# EAGLE library part TI-TPS62175 (library EagleLibrary)
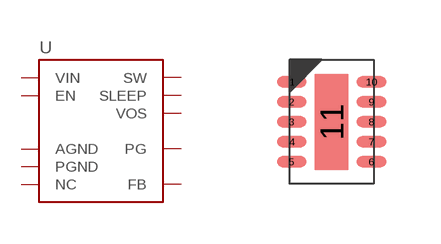
[diagram p28: symbol with the pads of TI-TPS62175DQC; footprint TI-TPS62175DQC]

Designator prefix U

## TI-TPS62175 (MFG: Texas Instruments)  [TI-TPS62175DQC]
1  PGND
2  VIN
3  EN
4  NC
5  FB
6  AGND
7  PG
8  SLEEP
9  SW
10  VOS
11  AGND

## Footprint TI-TPS62175DQC (pad centres in mm)
10-SON (DFN), 0.50 mm pitch, 3.00 X 2.00 X 0.80 mm body, 2.40 X 0.84 mm thermal pad 10-pin SON (DFN) package with 0.50 mm pitch with body size 3.00 X 2.00 X 0.80 mm and thermal pad size 2.40 X 0.84 mm
smd 0.738 x 0.27: 1 -0.996,1; 2 -0.996,0.5; 3 -0.996,0; 4 -0.996,-0.5; 5 -0.996,-1; 6 0.996,-1; 7 0.996,-0.5; 8 0.996,0; 9 0.996,0.5; 10 0.996,1
smd 0.84 x 2.4: 11 0,0